# EAGLE library part FPGA:EP3C__Q240C (library QuantumOptics)
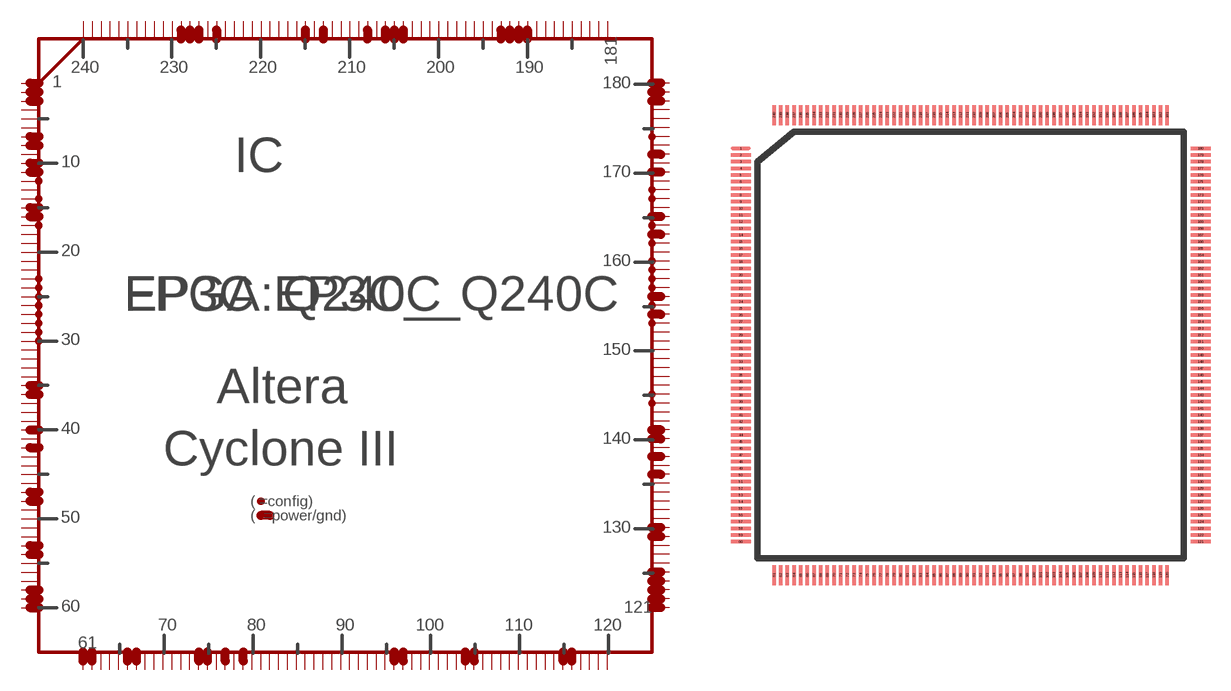
[diagram p136: symbol with the pads of PQFP-240; footprint PQFP-240]

Designator prefix IC

## FPGA:EP3C__Q240C  [PQFP-240]
1  1  pwr
2  2  pwr
3  3  pwr
4  4
5  5
6  6
7  7  pwr
8  8  pwr
9  9
10  10  pwr
11  11  pwr
12  12
13  13
14  14
15  15  pwr
16  16  pwr
17  17
18  18
19  19
20  20
21  21
22  22
23  23
24  24
25  25
26  26
27  27
28  28
29  29
30  30
31  31
32  32
33  33
34  34
35  35  pwr
36  36  pwr
37  37
38  38
39  39
40  40  pwr
41  41
42  42  pwr
43  43
44  44
45  45
46  46
47  47  pwr
48  48  pwr
49  49
50  50
51  51
52  52
53  53  pwr
54  54  pwr
55  55
56  56
57  57
58  58  pwr
59  59  pwr
60  60
61  61  pwr
62  62  pwr
63  63
64  64
65  65
66  66  pwr
67  67  pwr
68  68
69  69
70  70
71  71
72  72
73  73
74  74  pwr
75  75  pwr
76  76
77  77  pwr
78  78
79  79  pwr
80  80
81  81
82  82
83  83
84  84
85  85
86  86
87  87
88  88
89  89
90  90
91  91
92  92
93  93
94  94
95  95
96  96  pwr
97  97  pwr
98  98
99  99
100  100
101  101
102  102
103  103
104  104  pwr
105  105  pwr
106  106
107  107
108  108
109  109
110  110
111  111
112  112
113  113
114  114
115  115  pwr
116  116  pwr
117  117
118  118
119  119
120  120
121  121  pwr
122  122  pwr
123  123  pwr
124  124  pwr
125  125  pwr
126  126
127  127
128  128
129  129  pwr
130  130  pwr
131  131
132  132
133  133
134  134
135  135
136  136  pwr
137  137
138  138  pwr
139  139
140  140  pwr
141  141  pwr
142  142
143  143
144  144
145  145
146  146
147  147
148  148
149  149
150  150
151  151
152  152
153  153  out
154  154  pwr
155  155  in
156  156  pwr
157  157  in
158  158  in
159  159
160  160
161  161
162  162
163  163  pwr
164  164
165  165  pwr
166  166
167  167
168  168
169  169
170  170  pwr
171  171
172  172  pwr
173  173
174  174
175  175
176  176
177  177
178  178  pwr
179  179  pwr
180  180  pwr
181  181
182  182
183  183
184  184
185  185
186  186
187  187
188  188
189  189
190  190  pwr
191  191  pwr
192  192  pwr
193  193  pwr
194  194
195  195
196  196
197  197
198  198
199  199
200  200
201  201
202  202
203  203
204  204  pwr
205  205  pwr
206  206  pwr
207  207
208  208  pwr
209  209
210  210
211  211
212  212
213  213  pwr
214  214
215  215  pwr
216  216
217  217
218  218
219  219
220  220
221  221
222  222
223  223
224  224
225  225  pwr
226  226
227  227  pwr
228  228  pwr
229  229  pwr
230  230
231  231
232  232
233  233
234  234
235  235
236  236
237  237
238  238
239  239
240  240

## Footprint PQFP-240 (pad centres in mm)
PQFP-240, from Altera. 0.5mm pin pitch. NOTICE - PCB should be laid out on a 0.5mm grid, or 0.0025" if you have to then finish routing manually. Use 0.008"max traces with 0.009"min clearances.
smd 1.5 x 0.27: 1 -17,14.5; 2 -17,14; 3 -17,13.5; 4 -17,13; 5 -17,12.5; 6 -17,12; 7 -17,11.5; 8 -17,11; 9 -17,10.5; 10 -17,10; 11 -17,9.5; 12 -17,9; 13 -17,8.5; 14 -17,8; 15 -17,7.5; 16 -17,7; 17 -17,6.5; 18 -17,6; 19 -17,5.5; 20 -17,5; 21 -17,4.5; 22 -17,4; 23 -17,3.5; 24 -17,3; 25 -17,2.5; 26 -17,2; 27 -17,1.5; 28 -17,1; 29 -17,0.5; 30 -17,0; 31 -17,-0.5; 32 -17,-1; 33 -17,-1.5; 34 -17,-2; 35 -17,-2.5; 36 -17,-3; 37 -17,-3.5; 38 -17,-4; 39 -17,-4.5; 40 -17,-5; 41 -17,-5.5; 42 -17,-6; 43 -17,-6.5; 44 -17,-7; 45 -17,-7.5; 46 -17,-8; 47 -17,-8.5; 48 -17,-9; 49 -17,-9.5; 50 -17,-10; 51 -17,-10.5; 52 -17,-11; 53 -17,-11.5; 54 -17,-12; 55 -17,-12.5; 56 -17,-13; 57 -17,-13.5; 58 -17,-14; 59 -17,-14.5; 60 -17,-15; 121 17.5,-15; 122 17.5,-14.5; 123 17.5,-14; 124 17.5,-13.5; 125 17.5,-13; 126 17.5,-12.5; 127 17.5,-12; 128 17.5,-11.5; 129 17.5,-11; 130 17.5,-10.5; 131 17.5,-10; 132 17.5,-9.5; 133 17.5,-9; 134 17.5,-8.5; 135 17.5,-8; 136 17.5,-7.5; 137 17.5,-7; 138 17.5,-6.5; 139 17.5,-6; 140 17.5,-5.5; 141 17.5,-5; 142 17.5,-4.5; 143 17.5,-4; 144 17.5,-3.5; 145 17.5,-3; 146 17.5,-2.5; 147 17.5,-2; 148 17.5,-1.5; 149 17.5,-1; 150 17.5,-0.5; 151 17.5,0; 152 17.5,0.5; 153 17.5,1; 154 17.5,1.5; 155 17.5,2; 156 17.5,2.5; 157 17.5,3; 158 17.5,3.5; 159 17.5,4; 160 17.5,4.5; 161 17.5,5; 162 17.5,5.5; 163 17.5,6; 164 17.5,6.5; 165 17.5,7; 166 17.5,7.5; 167 17.5,8; 168 17.5,8.5; 169 17.5,9; 170 17.5,9.5; 171 17.5,10; 172 17.5,10.5; 173 17.5,11; 174 17.5,11.5; 175 17.5,12; 176 17.5,12.5; 177 17.5,13; 178 17.5,13.5; 179 17.5,14; 180 17.5,14.5
smd 0.27 x 1.5: 61 -14.5,-17.5; 62 -14,-17.5; 63 -13.5,-17.5; 64 -13,-17.5; 65 -12.5,-17.5; 66 -12,-17.5; 67 -11.5,-17.5; 68 -11,-17.5; 69 -10.5,-17.5; 70 -10,-17.5; 71 -9.5,-17.5; 72 -9,-17.5; 73 -8.5,-17.5; 74 -8,-17.5; 75 -7.5,-17.5; 76 -7,-17.5; 77 -6.5,-17.5; 78 -6,-17.5; 79 -5.5,-17.5; 80 -5,-17.5; 81 -4.5,-17.5; 82 -4,-17.5; 83 -3.5,-17.5; 84 -3,-17.5; 85 -2.5,-17.5; 86 -2,-17.5; 87 -1.5,-17.5; 88 -1,-17.5; 89 -0.5,-17.5; 90 0,-17.5; 91 0.5,-17.5; 92 1,-17.5; 93 1.5,-17.5; 94 2,-17.5; 95 2.5,-17.5; 96 3,-17.5; 97 3.5,-17.5; 98 4,-17.5; 99 4.5,-17.5; 100 5,-17.5; 101 5.5,-17.5; 102 6,-17.5; 103 6.5,-17.5; 104 7,-17.5; 105 7.5,-17.5; 106 8,-17.5; 107 8.5,-17.5; 108 9,-17.5; 109 9.5,-17.5; 110 10,-17.5; 111 10.5,-17.5; 112 11,-17.5; 113 11.5,-17.5; 114 12,-17.5; 115 12.5,-17.5; 116 13,-17.5; 117 13.5,-17.5; 118 14,-17.5; 119 14.5,-17.5; 120 15,-17.5; 181 15,17; 182 14.5,17; 183 14,17; 184 13.5,17; 185 13,17; 186 12.5,17; 187 12,17; 188 11.5,17; 189 11,17; 190 10.5,17; 191 10,17; 192 9.5,17; 193 9,17; 194 8.5,17; 195 8,17; 196 7.5,17; 197 7,17; 198 6.5,17; 199 6,17; 200 5.5,17; 201 5,17; 202 4.5,17; 203 4,17; 204 3.5,17; 205 3,17; 206 2.5,17; 207 2,17; 208 1.5,17; 209 1,17; 210 0.5,17; 211 0,17; 212 -0.5,17; 213 -1,17; 214 -1.5,17; 215 -2,17; 216 -2.5,17; 217 -3,17; 218 -3.5,17; 219 -4,17; 220 -4.5,17; 221 -5,17; 222 -5.5,17; 223 -6,17; 224 -6.5,17; 225 -7,17; 226 -7.5,17; 227 -8,17; 228 -8.5,17; 229 -9,17; 230 -9.5,17; 231 -10,17; 232 -10.5,17; 233 -11,17; 234 -11.5,17; 235 -12,17; 236 -12.5,17; 237 -13,17; 238 -13.5,17; 239 -14,17; 240 -14.5,17